# Altium schematic symbol library GenericContinued.SchLib: 7 symbols
Pins are listed as number, name and electrical type; pins without a type are passive.

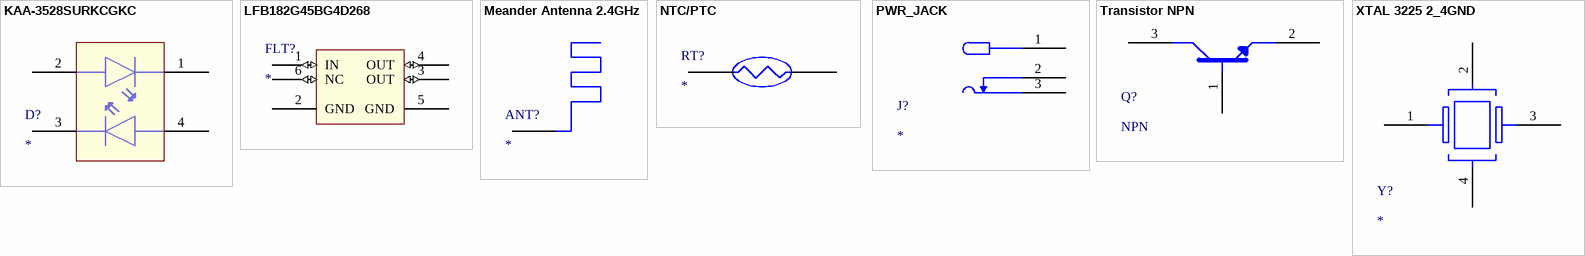
[diagram p0: symbols KAA-3528SURKCGKC to XTAL 3225 2_4GND]

## KAA-3528SURKCGKC
designator D?
footprint KAA-3528 (4-Pin LED 35mm x 28mm)
pins: 1, 2, 3, 4

## LFB182G45BG4D268
designator FLT?
Ultra-small, low-profiled, lightweight band-pass filters.
pins: 1 IN (io), 2 GND (power), 3 OUT (io), 4 OUT (io), 5 GND (power), 6 NC (io)

## Meander Antenna 2.4GHz
designator ANT?
pins: 1

## NTC/PTC
designator RT?
pins: 1, 2

## PWR_JACK
designator J?
footprint PWR_JACK_55x21 (PCB Mount DC Power Jacks)
pins: 1 A (power), 2 B (power), 3 C (power)

## Transistor NPN
designator Q?, comment NPN
footprint SOT23-3P90R290x240 (SOT23, 3-Leads, Body 2.90x2.4mm, Pitch 0.90mm, IPC Medium Density)
pins: 1 B, 2 B, 3 B

## XTAL 3225 2_4GND
designator Y?
footprint Y_3225 (Crystal, 4-Leads, Body 2.50x3.20mm, Pitch 2.20mm, IPC Low Density)
pins: 1, 2, 3, 4